# Altium integrated library ГПИО.IntLib: 1 symbol
Pins are listed as number, name and electrical type; pins without a type are passive.

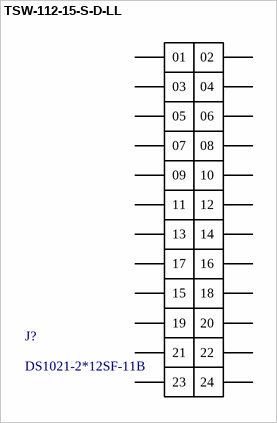
[diagram p0: symbol TSW-112-15-S-D-LL]

## TSW-112-15-S-D-LL
designator J?, comment DS1021-2*12SF-11B
Тип: Вилка штыревая прямая; Количество штырей: 2*12; Шаг: 2.54 мм
footprint SAMTEC_TSW-112-15-S-D-LL
pins: 01, 02, 03, 04, 05, 06, 07, 08, 09, 10, 11, 12, 13, 14, 15, 16, 17, 18, 19, 20, 21, 22, 23, 24